# EAGLE library part XBEE (library telemetry-board)
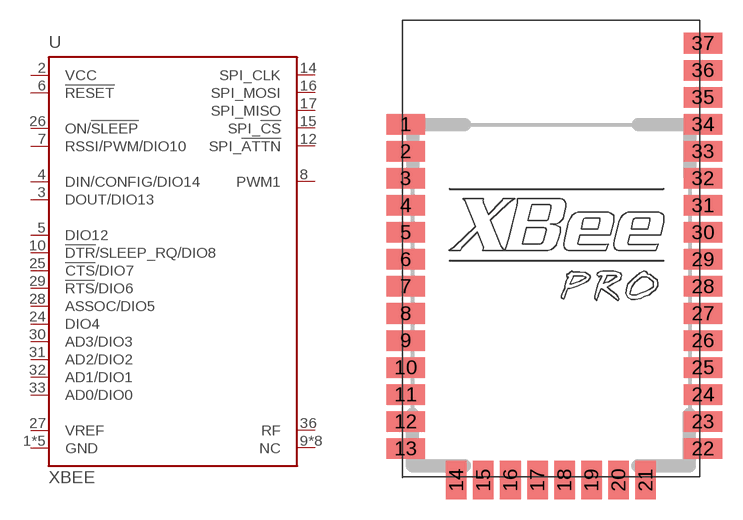
[diagram p8: symbol with the pads of XBEE-S2C-SMNT; footprint XBEE-S2C-SMNT]

Designator prefix -

## XBEE  [XBEE-S2C-SMNT]
1  GND  pwr
2  VCC  pwr
3  DOUT/DIO13  out
4  DIN/CONFIG/DIO14  in
5  DIO12
6  !RESET  in
7  RSSI/PWM/DIO10  out
8  PWM1  out
9  NC  nc
10  !DTR!/SLEEP_RQ/DIO8
11  GND  pwr
12  SPI_!ATTN
13  GND  pwr
14  SPI_CLK
15  SPI_!CS
16  SPI_MOSI
17  SPI_MISO
18  NC  nc
19  NC  nc
20  NC  nc
21  NC  nc
22  GND  pwr
23  NC  nc
24  DIO4
25  !CTS!/DIO7
26  ON/!SLEEP  out
27  VREF  in
28  ASSOC/DIO5
29  !RTS!/DIO6
30  AD3/DIO3
31  AD2/DIO2
32  AD1/DIO1
33  AD0/DIO0
34  NC  nc
35  GND  pwr
36  RF
37  NC  nc

## Footprint XBEE-S2C-SMNT (pad centres in mm)
smd 2.84 x 1.52: 1 -10.745,26.08; 2 -10.745,24.08; 3 -10.745,22.08; 4 -10.745,20.08; 5 -10.745,18.08; 6 -10.745,16.08; 7 -10.745,14.08; 8 -10.745,12.08; 9 -10.745,10.08; 10 -10.745,8.08; 11 -10.745,6.08; 12 -10.745,4.08; 13 -10.745,2.08; 22 11.255,2.08; 23 11.255,4.08; 24 11.255,6.08; 25 11.255,8.08; 26 11.255,10.08; 27 11.255,12.08; 28 11.255,14.08; 29 11.255,16.08; 30 11.255,18.08; 31 11.255,20.08; 32 11.255,22.08; 33 11.255,24.08; 34 11.255,26.08; 35 11.255,28.08; 36 11.255,30.08; 37 11.255,32.08
smd 1.52 x 2.84: 14 -7,-0.25; 15 -5,-0.25; 16 -3,-0.25; 17 -1,-0.25; 18 1,-0.25; 19 3,-0.25; 20 5,-0.25; 21 7,-0.25